# EAGLE library part LMR10510 (library Spark)
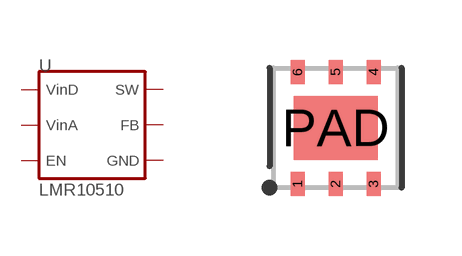
[diagram p14: symbol with the pads of WSON-6-PAD; footprint WSON-6-PAD]

Designator prefix -

## LMR10510  [WSON-6-PAD]
1  FB  in
2  GND  pwr
3  SW  out
4  VIND  in
5  VINA  in
6  EN  in
PAD  GND  pwr

## Footprint WSON-6-PAD (pad centres in mm)
6-Pin WSON
smd 0.35 x 0.6: 1 -0.95,-1.4; 2 0,-1.4; 3 0.95,-1.4; 4 0.95,1.4; 5 0,1.4; 6 -0.95,1.4
smd 2.1 x 1.6: PAD 0,0